# EAGLE library part LSM9D (library jnode)
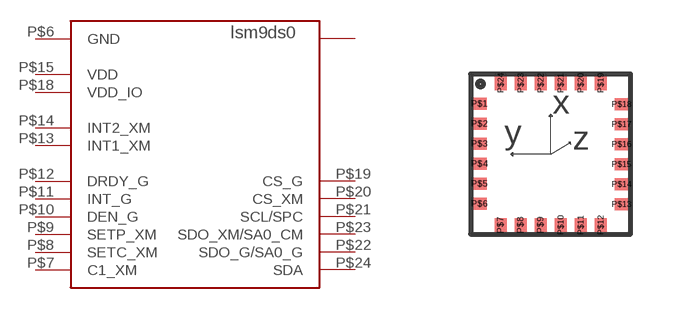
[diagram p5: symbol with the pads of LGA4X4; footprint LGA4X4]

Designator prefix -

## LSM9D  [LGA4X4]
P$1  RES
P$2  RES
P$3  RES
P$4  RES
P$5  GND
P$6  GND
P$7  C1_XM
P$8  SETC_XM
P$9  SETP_XM
P$10  DEN_G
P$11  INT_G
P$12  DRDY_G
P$13  INT1_XM
P$14  INT2_XM
P$15  VDD
P$16  VDD
P$17  VDD
P$18  VDD_IO
P$19  CS_G
P$20  CS_XM
P$21  SCL/SPC
P$22  SDO_G/SA0_G
P$23  SDO_XM/SA0_CM
P$24  SDA

## Footprint LGA4X4 (pad centres in mm)
smd 0.35 x 0.3: P$1 -1.775,1.255; P$2 -1.775,0.755; P$3 -1.775,0.255; P$4 -1.775,-0.245; P$5 -1.775,-0.745; P$6 -1.775,-1.245; P$13 1.775,-1.25; P$14 1.775,-0.75; P$15 1.775,-0.25; P$16 1.775,0.25; P$17 1.775,0.75; P$18 1.775,1.25
smd 0.3 x 0.35: P$7 -1.25,-1.775; P$8 -0.75,-1.775; P$9 -0.25,-1.775; P$10 0.25,-1.775; P$11 0.75,-1.775; P$12 1.25,-1.775; P$19 1.25,1.775; P$20 0.75,1.775; P$21 0.25,1.775; P$22 -0.25,1.775; P$23 -0.75,1.775; P$24 -1.25,1.775